# Altium footprint library Electrolytic Capacitor.PcbLib: 26 footprints (part 2 of 2)
Each footprint in its own frame and in the unit in brackets; x right, y up, seen from the top. Pads: shape width x height; smd on the part's side, far side on the other; paste and mask are expansions set on the pad; w line width, h text height; cw(c..) or ccw(c..) is an arc to the next point about the centre after c.
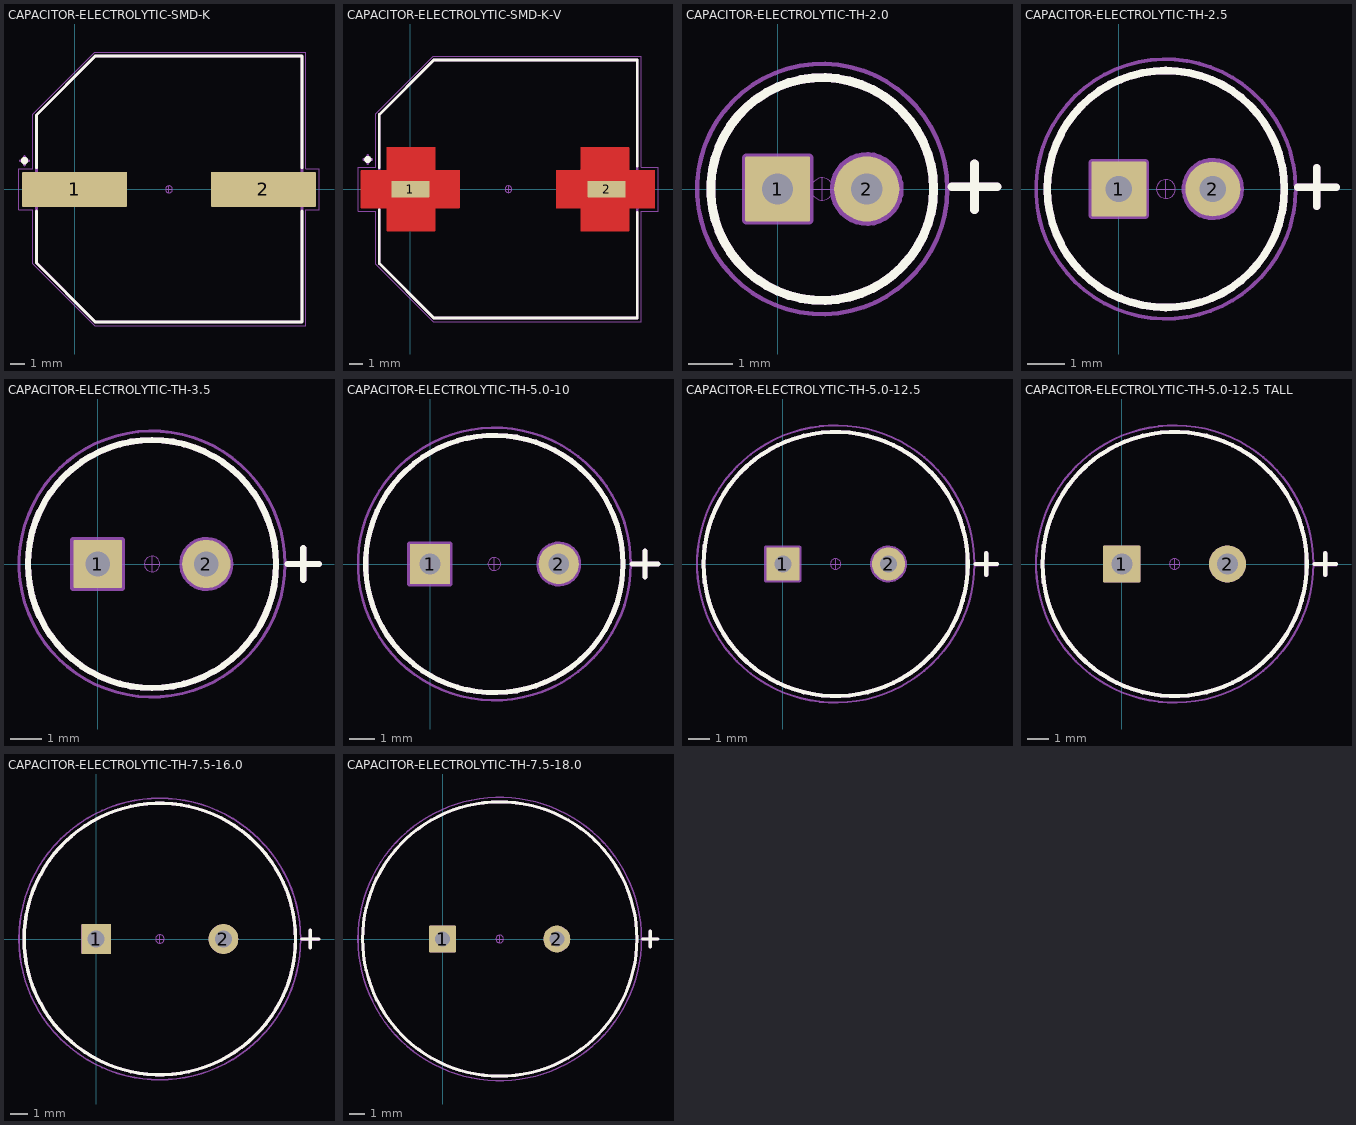
[diagram p1: the footprints below, top view; thin cyan lines are the x and y axes]

## CAPACITOR-ELECTROLYTIC-SMD-K [mm] "Electrolytic Capacitor SMD Size K ( ? 18mm )"
height 16.502
pads (2):
  rrect5% 7.5x2.5 smd mask+0.05: 1(0,0) 2(13.5,0)
Top Overlay:
  circle w0.27: c-3.58,2.05 r0.13
  lines w0.2: -2.725,-1.55 -2.725,-5.275 1.475,-9.475 16.25,-9.475 16.25,-1.55 ; -2.725,1.55 -2.725,5.325 1.475,9.525 16.25,9.525 16.25,1.55
Top Component Outline:
  lines w0.2: -3.88,2.05 -3.28,2.05 ; -3.58,1.75 -3.58,2.35 ; -2.725,-5.25 -2.725,5.325 1.475,9.525 16.25,9.525 16.25,-9.475 1.5,-9.475 -2.725,-5.25
  text "'.Comment'" at 4.524,-7.602 h1
Top Courtyard:
  lines w0.05: -3.975,-1.475 -3.975,1.475 -3,1.475 -3,5.375 1.425,9.8 16.525,9.8 16.525,1.475 17.475,1.475 17.475,-1.475 16.525,-1.475 16.525,-9.75 1.425,-9.75 -3,-5.325 -3,-1.475 -3.975,-1.475
Top Component Center:
  circle w0.012: c6.75,0 r0.25
  lines w0.012: 6.5,0 6.75,0 ; 6.75,-0.25 6.75,0 ; 6.75,0.25 6.75,0 ; 7,0 6.75,0
Top Designator:
  text "'.Designator'" at 4.308,-0.224 h1
Top Assembly (Mech16):
  lines w0.2: -3.88,2.05 -3.28,2.05 ; -3.58,1.75 -3.58,2.35 ; -2.725,-5.275 -2.725,5.325 1.475,9.525 16.25,9.525 16.25,-9.475 1.475,-9.475 -2.725,-5.275
  text "'.Designator'" at 4.308,-0.224 h1
3D body "CAPACITOR-K16.step": height 16.5, standoff -0.01, extent -3.3,-9.5 16.8,9.5

## CAPACITOR-ELECTROLYTIC-SMD-K-V [mm] "Electrolytic Capacitor SMD Size K Anti-Vibration ( ? 18mm )"
height 16.821
pads (2):
  rrect5% 2.8x1.2 smd mask+0.05: 1(0,0) 2(14.5,0)
Top Layer:
  region: 18.025,-1.4 16.225,-1.4 16.215,-1.401 16.197,-1.408 16.183,-1.422 16.176,-1.44 16.175,-1.45 16.175,-3.05 16.175,-3.06 16.167,-3.078 16.153,-3.092 16.135,-3.1 16.125,-3.1 12.625,-3.1 12.615,-3.1 12.597,-3.092 12.583,-3.078 12.575,-3.06 12.575,-3.05 12.575,-1.45 12.574,-1.44 12.567,-1.422 12.553,-1.408 12.535,-1.401 12.525,-1.4 10.825,-1.4 10.815,-1.4 10.797,-1.392 10.783,-1.378 10.775,-1.36 10.775,-1.35 10.775,1.35 10.775,1.36 10.783,1.378 10.797,1.392 10.815,1.4 10.825,1.4 12.525,1.4 12.535,1.401 12.553,1.408 12.567,1.422 12.574,1.44 12.575,1.45 12.575,3.05 12.575,3.06 12.583,3.078 12.597,3.092 12.615,3.1 12.625,3.1 16.125,3.1 16.135,3.1 16.153,3.092 16.167,3.078 16.175,3.06 16.175,3.05 16.175,1.45 16.176,1.44 16.183,1.422 16.197,1.408 16.215,1.401 16.225,1.4 18.025,1.4 18.035,1.4 18.053,1.392 18.067,1.378 18.075,1.36 18.075,1.35 18.075,-1.35 18.075,-1.36 18.067,-1.378 18.053,-1.392 18.035,-1.4
  region: 1.842,-3.047 1.842,-1.447 1.843,-1.437 1.85,-1.419 1.864,-1.406 1.882,-1.398 1.892,-1.397 3.592,-1.397 3.602,-1.397 3.62,-1.39 3.634,-1.376 3.642,-1.357 3.642,-1.347 3.642,1.353 3.642,1.363 3.634,1.381 3.62,1.395 3.602,1.403 3.592,1.403 1.892,1.403 1.882,1.404 1.864,1.411 1.85,1.425 1.843,1.443 1.842,1.453 1.842,3.053 1.842,3.063 1.834,3.081 1.82,3.095 1.802,3.103 1.792,3.103 -1.708,3.103 -1.718,3.103 -1.737,3.095 -1.751,3.081 -1.758,3.063 -1.758,3.053 -1.758,1.453 -1.759,1.443 -1.767,1.425 -1.781,1.411 -1.799,1.404 -1.808,1.403 -3.608,1.403 -3.618,1.403 -3.637,1.395 -3.651,1.381 -3.658,1.363 -3.658,1.353 -3.658,-1.347 -3.658,-1.357 -3.651,-1.376 -3.637,-1.39 -3.618,-1.397 -3.608,-1.397 -1.808,-1.397 -1.799,-1.398 -1.781,-1.406 -1.767,-1.419 -1.759,-1.437 -1.758,-1.447 -1.758,-3.047 -1.758,-3.057 -1.751,-3.076 -1.737,-3.09 -1.718,-3.097 -1.708,-3.097 1.792,-3.097 1.802,-3.097 1.82,-3.09 1.834,-3.076 1.842,-3.057
Top Overlay:
  circle w0.27: c-3.15,2.2 r0.13
  lines w0.2: -2.3,-1.525 -2.3,-5.5 1.725,-9.525 16.775,-9.525 16.775,-1.7 ; -2.3,1.6 -2.3,5.525 1.725,9.55 16.775,9.55 16.775,1.7
Top Component Outline:
  lines w0.2: -3.45,2.2 -2.85,2.2 ; -3.15,1.9 -3.15,2.5 ; -2.3,-5.5 1.725,-9.525 16.775,-9.525 16.775,9.55 1.725,9.55 -2.3,5.525 -2.3,-5.5
  text "'.Comment'" at 5.024,-8.302 h1
Top Courtyard:
  lines w0.05: -3.875,-1.625 -3.875,1.625 -2.575,1.625 -2.575,5.575 1.675,9.825 17.05,9.825 17.05,1.625 18.3,1.625 18.3,-1.625 17.05,-1.625 17.05,-9.8 1.675,-9.8 -2.575,-5.55 -2.575,-1.625 -3.875,-1.625
Top Component Center:
  circle w0.012: c7.25,0 r0.25
  lines w0.012: 7,0 7.25,0 ; 7.25,-0.25 7.25,0 ; 7.25,0.25 7.25,0 ; 7.5,0 7.25,0
Top Designator:
  text "'.Designator'" at 4.808,-0.224 h1
Top Assembly (Mech16):
  lines w0.2: -3.45,2.2 -2.85,2.2 ; -3.15,1.9 -3.15,2.5 ; -2.3,-5.5 1.725,-9.525 16.775,-9.525 16.775,9.55 1.725,9.55 -2.3,5.525 -2.3,-5.5
  text "'.Designator'" at 4.808,-0.224 h1
3D body "CAPACITOR-K16-V.stp": height 16.82, standoff 0.02, extent -2.95,-9.5 17.45,9.5

## CAPACITOR-ELECTROLYTIC-TH-2.0 [mm] "Electrolytic Capacitor TH - Pitch 2.0, diam 5.0, lead diam. 0.5"
height 11
pads (2):
  rrect5% 1.46x1.46 hole 0.7 mask+0.05: 1(0,0)
  round 1.46 hole 0.7 mask+0.05: 2(2,0)
Top Overlay:
  circle w0.2: c1,0 r2.5
  lines w0.2: 3.907,0.05 4.923,0.05 ; 4.415,-0.458 4.415,0.558
Top Component Outline:
  circle w0.2: c1,0 r2.5
  lines w0.2: 3.907,0.05 4.923,0.05 ; 4.415,-0.458 4.415,0.558
  text "'.Comment'" at -1.226,-1.927 h1
Top Courtyard:
  circle w0.1: c1,0 r2.809
Top Component Center:
  circle w0.012: c1,0 r0.25
  lines w0.012: 0.75,0 1,0 ; 1,-0.25 1,0 ; 1,0.25 1,0 ; 1.25,0 1,0
Top Designator:
  text "'.Designator'" at -1.442,-0.224 h1
Top Assembly (Mech16):
  circle w0.2: c1,0 r2.5
  circle w0.2: c2,0 r0.73
  lines w0.2: 3.907,0.05 4.923,0.05 ; 4.415,-0.458 4.415,0.558 ; -0.7,-0.7 0.7,-0.7 0.7,0.7 -0.7,0.7 -0.7,-0.7
  text "'.Designator'" at -1.442,-0.224 h1
3D body "CAPACITOR-TH-2.0.STEP": height 11, standoff -17, extent -1.65,-2.348 3.35,2.648

## CAPACITOR-ELECTROLYTIC-TH-2.5 [mm] "Electrolytic Capacitor TH - Pitch 2.5, diam 6.3, lead diam. 0.5"
height 11.2
pads (2):
  rrect5% 1.46x1.46 hole 0.7 mask+0.05: 1(0,0)
  round 1.46 hole 0.7 mask+0.05: 2(2.5,0)
Top Overlay:
  circle w0.2: c1.25,0 r3.15
  lines w0.2: 4.757,0.05 5.773,0.05 ; 5.265,-0.458 5.265,0.558
Top Component Outline:
  circle w0.2: c1.25,0 r3.15
  lines w0.2: 4.757,0.05 5.773,0.05 ; 5.265,-0.458 5.265,0.558
  text "'.Comment'" at -0.976,-1.927 h1
Top Courtyard:
  circle w0.1: c1.25,0 r3.451
Top Component Center:
  circle w0.012: c1.25,0 r0.25
  lines w0.012: 1,0 1.25,0 ; 1.25,-0.25 1.25,0 ; 1.25,0.25 1.25,0 ; 1.5,0 1.25,0
Top Designator:
  text "'.Designator'" at -1.192,-0.224 h1
Top Assembly (Mech16):
  circle w0.2: c2.5,0 r0.73
  circle w0.2: c1.25,0 r3.15
  lines w0.2: 4.757,0.05 5.773,0.05 ; 5.265,-0.458 5.265,0.558 ; -0.7,-0.7 -0.7,0.7 0.7,0.7 0.7,-0.7 -0.7,-0.7
  text "'.Designator'" at -1.192,-0.224 h1
3D body "CAPACITOR-TH-2.5.STEP": height 11.2, standoff -17, extent -1.9,-3.149 4.4,3.149

## CAPACITOR-ELECTROLYTIC-TH-3.5 [mm] "Electrolytic Capacitor TH - Pitch 3.5, diam 8.0, lead diam. 0.6"
height 11.5
pads (2):
  rrect5% 1.56x1.56 hole 0.8 mask+0.05: 1(0,0)
  round 1.56 hole 0.8 mask+0.05: 2(3.5,0)
Top Overlay:
  circle w0.2: c1.75,0 r4
  lines w0.2: 6.117,0 7.133,0 ; 6.625,-0.508 6.625,0.508
Top Component Outline:
  circle w0.2: c1.75,0 r4
  lines w0.2: 6.117,0 7.133,0 ; 6.625,-0.508 6.625,0.508
  text "'.Comment'" at -0.476,-2.827 h1
Top Courtyard:
  circle w0.1: c1.75,0 r4.289
Top Component Center:
  circle w0.012: c1.75,0 r0.25
  lines w0.012: 1.5,0 1.75,0 ; 1.75,-0.25 1.75,0 ; 1.75,0.25 1.75,0 ; 2,0 1.75,0
Top Designator:
  text "'.Designator'" at -0.692,-0.224 h1
Top Assembly (Mech16):
  circle w0.2: c3.5,0 r0.775
  circle w0.2: c1.75,0 r4
  lines w0.2: 6.117,0 7.133,0 ; 6.625,-0.508 6.625,0.508 ; -0.8,-0.775 0.775,-0.775 0.775,0.775 -0.8,0.775 -0.8,-0.775
  text "'.Designator'" at -0.692,-0.224 h1
3D body "CAPACITOR-TH-3.5.STEP": height 11.5, standoff -17, extent -2.25,-4 5.75,4

## CAPACITOR-ELECTROLYTIC-TH-5.0-10 [mm] "Electrolytic Capacitor TH - Pitch 5.0, diam 10.0, lead diam. 0.6"
height 16
pads (2):
  rrect5% 1.56x1.56 hole 0.8 mask+0.05: 1(0,0)
  round 1.56 hole 0.8 mask+0.05: 2(5,0)
Top Overlay:
  circle w0.2: c2.5,0 r5
  lines w0.2: 7.842,0 8.858,0 ; 8.35,-0.508 8.35,0.508
Top Component Outline:
  circle w0.2: c2.5,0 r5
  lines w0.2: 7.842,0 8.858,0 ; 8.35,-0.508 8.35,0.508
  text "'.Comment'" at 0.274,-3.577 h1
Top Courtyard:
  circle w0.1: c2.5,0 r5.299
Top Component Center:
  circle w0.012: c2.5,0 r0.25
  lines w0.012: 2.25,0 2.5,0 ; 2.5,-0.25 2.5,0 ; 2.5,0.25 2.5,0 ; 2.75,0 2.5,0
Top Designator:
  text "'.Designator'" at 0.058,-0.224 h1
Top Assembly (Mech16):
  circle w0.2: c2.5,0 r5
  circle w0.2: c5,0 r0.775
  lines w0.2: 7.842,0 8.858,0 ; 8.35,-0.508 8.35,0.508 ; -0.8,-0.775 -0.8,0.775 0.775,0.775 0.775,-0.775 -0.8,-0.775
  text "'.Designator'" at 0.058,-0.224 h1
3D body "CAPACITOR-TH-5.0-10.step": height 16, standoff -17, extent -2.5,-4.999 7.5,4.999

## CAPACITOR-ELECTROLYTIC-TH-5.0-12.5 [mm] "Electrolytic Capacitor TH - Pitch 5.0, diam 12.5, lead diam. 0.6"
height 20
pads (2):
  rrect5% 1.56x1.56 hole 0.8 mask+0.05: 1(0,0)
  round 1.56 hole 0.8 mask+0.05: 2(5,0)
Top Overlay:
  circle w0.2: c2.5,0 r6.25
  lines w0.2: 9.117,0 10.133,0 ; 9.625,-0.508 9.625,0.508
Top Component Outline:
  circle w0.2: c2.5,0 r6.25
  lines w0.2: 9.117,-0.008 10.133,-0.008 ; 9.625,-0.516 9.625,0.5
  text "'.Comment'" at 0.274,-4.927 h1
Top Courtyard:
  circle w0.1: c2.5,0 r6.561
Top Component Center:
  circle w0.012: c2.5,0 r0.25
  lines w0.012: 2.25,0 2.5,0 ; 2.5,-0.25 2.5,0 ; 2.5,0.25 2.5,0 ; 2.75,0 2.5,0
Top Designator:
  text "'.Designator'" at 0.058,-0.224 h1
Top Assembly (Mech16):
  circle w0.2: c5,0 r0.775
  circle w0.2: c2.5,0 r6.25
  lines w0.2: 9.117,0 10.133,0 ; 9.625,-0.508 9.625,0.508 ; -0.8,-0.775 0.775,-0.775 0.775,0.775 -0.8,0.775 -0.8,-0.775
  text "'.Designator'" at 0.058,-0.224 h1
3D body "CAPACITOR-TH-5.0-12.5.step": height 20, standoff -17, extent -3.75,-6.249 8.75,6.249

## CAPACITOR-ELECTROLYTIC-TH-5.0-12.5 TALL [mm] "Electrolytic Capacitor TH - Pitch 5.0, diam 12.5, lead diam. 0.8"
height 17
pads (2):
  rrect5% 1.76x1.76 hole 1 mask+0.05: 1(0,0)
  round 1.76 hole 1 mask+0.05: 2(5,0)
Top Overlay:
  circle w0.2: c2.5,0 r6.25
  lines w0.2: 9.117,0 10.133,0 ; 9.625,-0.508 9.625,0.508
Top Component Outline:
  circle w0.2: c2.5,0 r6.25
  lines w0.2: 9.117,-0.008 10.133,-0.008 ; 9.625,-0.516 9.625,0.5
  text "'.Comment'" at 0.274,-4.927 h1
Top Courtyard:
  circle w0.1: c2.5,0 r6.561
Top Component Center:
  circle w0.012: c2.5,0 r0.25
  lines w0.012: 2.25,0 2.5,0 ; 2.5,-0.25 2.5,0 ; 2.5,0.25 2.5,0 ; 2.75,0 2.5,0
Top Designator:
  text "'.Designator'" at 0.058,-0.224 h1
Top Assembly (Mech16):
  circle w0.2: c2.5,0 r6.25
  circle w0.2: c5,0 r0.775
  lines w0.2: 9.117,0 10.133,0 ; 9.625,-0.508 9.625,0.508 ; -0.8,-0.775 -0.8,0.775 0.775,0.775 0.775,-0.775 -0.8,-0.775
  text "'.Designator'" at 0.058,-0.224 h1
3D body "CAPACITOR-TH-5.0-12.5-TALL-Lead0.8mm.STEP": height 30, standoff -17, extent -3.75,-6.25 8.75,6.25

## CAPACITOR-ELECTROLYTIC-TH-7.5-16.0 [mm] "Electrolytic Capacitor TH - Pitch 7.5, diam 16.0, lead diam. 0.8"
height 25
pads (2):
  rrect5% 1.76x1.76 hole 1 mask+0.05: 1(0,0)
  round 1.76 hole 1 mask+0.05: 2(7.5,0)
Top Overlay:
  circle w0.2: c3.75,0 r8
  lines w0.2: 12.117,0 13.133,0 ; 12.625,-0.508 12.625,0.508
Top Component Outline:
  circle w0.2: c3.75,0 r8
  lines w0.2: 12.117,-0.008 13.133,-0.008 ; 12.625,-0.516 12.625,0.5
  text "'.Comment'" at 1.524,-6.577 h1
Top Courtyard:
  circle w0.1: c3.75,0 r8.301
Top Component Center:
  circle w0.012: c3.75,0 r0.25
  lines w0.012: 3.5,0 3.75,0 ; 3.75,-0.25 3.75,0 ; 3.75,0.25 3.75,0 ; 4,0 3.75,0
Top Designator:
  text "'.Designator'" at 1.308,-0.224 h1
Top Assembly (Mech16):
  circle w0.2: c3.75,0 r8
  circle w0.2: c7.5,0 r0.775
  lines w0.2: 12.117,0 13.133,0 ; 12.625,-0.508 12.625,0.508 ; -0.8,-0.775 -0.8,0.775 0.775,0.775 0.775,-0.775 -0.8,-0.775
  text "'.Designator'" at 1.308,-0.224 h1
3D body "CAPACITOR-TH-7.5-16.0.STEP": height 25, standoff -17, extent -4.25,-7.997 11.75,7.997

## CAPACITOR-ELECTROLYTIC-TH-7.5-18.0 [mm] "Electrolytic Capacitor TH - Pitch 7.5, diam 18.0, lead diam. 0.8"
height 20
pads (2):
  rrect5% 1.76x1.76 hole 1 mask+0.05: 1(0,0)
  round 1.76 hole 1 mask+0.05: 2(7.5,0)
Top Overlay:
  circle w0.2: c3.75,0 r9
  lines w0.2: 13.117,0 14.133,0 ; 13.625,-0.508 13.625,0.508
Top Component Outline:
  circle w0.2: c3.75,0 r9
  lines w0.2: 13.117,-0.008 14.133,-0.008 ; 13.625,-0.516 13.625,0.5
  text "'.Comment'" at 1.524,-6.577 h1
Top Courtyard:
  circle w0.1: c3.75,0 r9.299
Top Component Center:
  circle w0.012: c3.75,0 r0.25
  lines w0.012: 3.5,0 3.75,0 ; 3.75,-0.25 3.75,0 ; 3.75,0.25 3.75,0 ; 4,0 3.75,0
Top Designator:
  text "'.Designator'" at 1.308,-0.224 h1
Top Assembly (Mech16):
  circle w0.2: c3.75,0 r9
  circle w0.2: c7.5,0 r0.775
  lines w0.2: 13.117,0 14.133,0 ; 13.625,-0.508 13.625,0.508 ; -0.8,-0.775 -0.8,0.775 0.775,0.775 0.775,-0.775 -0.8,-0.775
  text "'.Designator'" at 1.308,-0.224 h1
3D body "CAPACITOR-TH-7.5-18.0.STEP": height 20, standoff -17, extent -5.25,-9 12.75,9